# Altium schematic symbol library Gate_Drivers.SchLib: 1 symbol
Pins are listed as number, name and electrical type; pins without a type are passive.

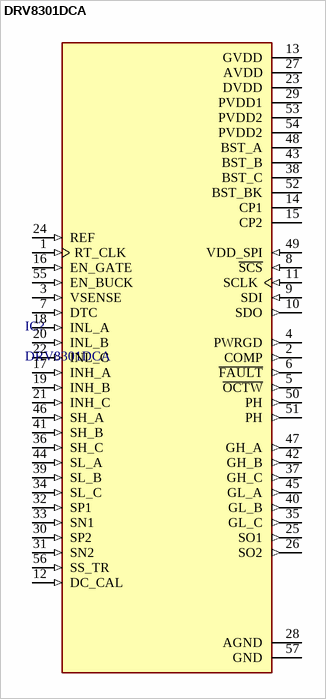
[diagram p0: symbol DRV8301DCA]

## DRV8301DCA
designator IC?
Power MOSFET Tube DRV8301 General Purpose motor driver 60V 1.7A 6.1mm -40C~125C TA; Manufacturer: Texas Instruments; Manufacturer Lifecycle Status: ACTIVE; Min Supply Voltage: 8V; Motor Type: Brushless DC (BLDC); Nominal Supply Current: 15mA; Number of Outputs: 1; Switching Frequency: 581kHz; Supplier: DigiKey; Supplier Part Number: 296-33274-5-ND; Manufacturer Part Number: DRV8301DCA; RoHS: Compliant; Category: Motor Drivers; Stock: 484; Pricing: 1=8,65, 10=6,719, 35=6,08629, 105=5,6881, 280=5,42282, 525=5,28747, 1015=5,16895 (USD); Case/Package: HTSSOP EP; Collector Emitter Voltage (VCEO): 60V; Height: 0m; Lead Free: Lead Free; Length: 14mm; Lifecycle Status: Production; Max Collector Current: 1.7A; Max Operating Temperature: 125°C; Max Supply Voltage: 60V; Min Operating Temperature: -40°C; Mounting Technology: Surface Mount; Pins: 56; Output Current: 1.7A; Radiation Hardening: No; REACH SVHC: No; Schedule B: 8542390000, 8542390000|8542390000|8542390000|8542390000|8542390000; Thickness: 1.15mm; Width: 6.1mm; ComponentLink1URL: https://sigma.octopart.com:443/184264061/technical_drawing/Texas-Instruments-DRV8301DCA.pdf?src-supplier=Texas+Instruments; ComponentLink1Description: https://sigma.octopart.com:443/184264061/technical_drawing/Texas-Instruments-DRV8301DCA.pdf?src-supplier=Texas+Instruments; ComponentLink2URL: https://octopart.com:443/opatz8j6/c1?t=8IUW2FYany34oJhLIyHX3Y1fI0NJBmozTUbG1CqNyPuNWTClGH-cr3TDyKeqxYPvaWCzT3FtFYre7m4Q0_NcEhaCaz4mrMBkw0JmabNj41SeHht1JXpUurlK2fwJkF59zymHjMraghvG0clGbmEpzk0-1Fi2LYVcqmMUSmJHOw8q5i15A0eOjXHAa3tkv_LsOMxXLpDcJMa_aqbVn0SPweYESkxUytDlv3TAlM6oY4J7IJJC2EjEwwEhPkQH_CuYhf8Ti-24CIEoT0h5OGCtdkTCzKVjqTotWSRYtTVQ0Tt15DGuyh5ljNo7b3BiePRRkOR3ODNP-x8tZIUca-sycMCq3AzyRFgJ2UNMLmvyduJzVS1Z3H-8J0ToKnTQpxkchCca5Q&src-supplier=Texas+Instruments; ComponentLink2Description: https://octopart.com:443/opatz8j6/c1?t=8IUW2FYany34oJhLIyHX3Y1fI0NJBmozTUbG1CqNyPuNWTClGH-cr3TDyKeqxYPvaWCzT3FtFYre7m4Q0_NcEhaCaz4mrMBkw0JmabNj41SeHht1JXpUurlK2fwJkF59zymHjMraghvG0clGbmEpzk0-1Fi2LYVcqmMUSmJHOw8q5i15A0eOjXHAa3tkv_LsOMxXLpDcJMa_aqbVn0SPweYESkxUytDlv3TAlM6oY4J7IJJC2EjEwwEhPkQH_CuYhf8Ti-24CIEoT0h5OGCtdkTCzKVjqTotWSRYtTVQ0Tt15DGuyh5ljNo7b3BiePRRkOR3ODNP-x8tZIUca-sycMCq3AzyRFgJ2UNMLmvyduJzVS1Z3H-8J0ToKnTQpxkchCca5Q&src-supplier=Texas+Instruments; ComponentLink3URL: https://datasheet.octopart.com:443/DRV8301DCA-Texas-Instruments-datasheet-17277489.pdf?src-supplier=Texas+Instruments; ComponentLink3Description: https://datasheet.octopart.com:443/DRV8301DCA-Texas-Instruments-datasheet-17277489.pdf?src-supplier=Texas+Instruments; ComponentLink4URL: https://datasheet.octopart.com:443/DRV8301DCA-Texas-Instruments-datasheet-15540827.pdf?src-supplier=Texas+Instruments; ComponentLink4Description: https://datasheet.octopart.com:443/DRV8301DCA-Texas-Instruments-datasheet-15540827.pdf?src-supplier=Texas+Instruments; ComponentLink5URL: https://datasheet.octopart.com:443/DRV8301DCA-Texas-Instruments-datasheet-11520822.pdf?src-supplier=Texas+Instruments; ComponentLink5Description: https://datasheet.octopart.com:443/DRV8301DCA-Texas-Instruments-datasheet-11520822.pdf?src-supplier=Texas+Instruments; ComponentLink6URL: https://sigma.octopart.com:443/49252451/technical_drawing/Texas-Instruments-DRV8301DCA.pdf?src-supplier=Texas+Instruments; ComponentLink6Description: https://sigma.octopart.com:443/49252451/technical_drawing/Texas-Instruments-DRV8301DCA.pdf?src-supplier=Texas+Instruments; ComponentLink7URL: https://datasheet.octopart.com:443/DRV8301DCA-Texas-Instruments-datasheet-37101717.pdf?src-supplier=Newark; ComponentLink7Description: https://datasheet.octopart.com:443/DRV8301DCA-Texas-Instruments-datasheet-37101717.pdf?src-supplier=Newark; ComponentLink8URL: https://datasheet.octopart.com:443/DRV8301DCA-Texas-Instruments-datasheet-33018439.pdf?src-supplier=Newark; ComponentLink8Description: https://datasheet.octopart.com:443/DRV8301DCA-Texas-Instruments-datasheet-33018439.pdf?src-supplier=Newark; ComponentLink9URL: https://datasheet.octopart.com:443/DRV8301DCA-Texas-Instruments-datasheet-10540733.pdf?src-supplier=Upverter; ComponentLink9Description: https://datasheet.octopart.com:443/DRV8301DCA-Texas-Instruments-datasheet-10540733.pdf?src-supplier=Upverter; ComponentLink10URL: https://datasheet.octopart.com:443/DRV8301DCA-Texas-Instruments-datasheet-102488708.pdf?src-supplier=Farnell; ComponentLink10Description: https://datasheet.octopart.com:443/DRV8301DCA-Texas-Instruments-datasheet-102488708.pdf?src-supplier=Farnell; ComponentLink11URL: https://datasheet.octopart.com:443/DRV8301DCA-Texas-Instruments-datasheet-163231296.pdf?src-supplier=SHENGYU+ELECTRONICS; ComponentLink11Description: https://datasheet.octopart.com:443/DRV8301DCA-Texas-Instruments-datasheet-163231296.pdf?src-supplier=SHENGYU+ELECTRONICS; ComponentLink12URL: https://datasheet.octopart.com:443/DRV8301DCA-Texas-Instruments-datasheet-154627238.pdf?src-supplier=IBE+SMT+Equipment; ComponentLink12Description: https://datasheet.octopart.com:443/DRV8301DCA-Texas-Instruments-datasheet-154627238.pdf?src-supplier=IBE+SMT+Equipment; ComponentLink13URL: http://sigma.octopart.com:80/conflict_mineral_statement/Texas-Instruments-company-63.pdf?src-supplier=Compliance+Statements; ComponentLink13Description: http://sigma.octopart.com:80/conflict_mineral_statement/Texas-Instruments-company-63.pdf?src-supplier=Compliance+Statements; ComponentLink14URL: http://sigma.octopart.com:80/reach_statement/Texas-Instruments-company-64.pdf?src-supplier=Compliance+Statements; ComponentLink14Description: http://sigma.octopart.com:80/reach_statement/Texas-Instruments-company-64.pdf?src-supplier=Compliance+Statements
footprint TI HTSSOP-56-6mm
pins: 1 RT_CLK (in), 2 COMP (out), 3 VSENSE (in), 4 PWRGD (out), 5 ~{OCTW} (out), 6 ~{FAULT} (out), 7 DTC (in), 8 ~{SCS} (in), 9 SDI (in), 10 SDO (out), 11 SCLK (in), 12 DC_CAL (in), 13 GVDD (power), 14 CP1 (power), 15 CP2 (power), 16 EN_GATE (in), 17 INH_A (in), 18 INL_A (in), 19 INH_B (in), 20 INL_B (in), 21 INH_C (in), 22 INL_C (in), 23 DVDD (power), 24 REF (in), 25 SO1 (out), 26 SO2 (out), 27 AVDD (power), 28 AGND (power), 29 PVDD1 (power), 30 SP2 (in), 31 SN2 (in), 32 SP1 (in), 33 SN1 (in), 34 SL_C (in), 35 GL_C (out), 36 SH_C (in), 37 GH_C (out), 38 BST_C (power), 39 SL_B (in), 40 GL_B (out), 41 SH_B (in), 42 GH_B (out), 43 BST_B (power), 44 SL_A (in), 45 GL_A (out), 46 SH_A (in), 47 GH_A (out), 48 BST_A (power), 49 VDD_SPI (in), 50 PH (out), 51 PH (out), 52 BST_BK (power), 53 PVDD2 (power), 54 PVDD2 (power), 55 EN_BUCK (in), 56 SS_TR (in), 57 GND (power)